# Altium footprint library SM_RVC0020A.PcbLib: 1 footprints
Each footprint in its own frame and in the unit in brackets; x right, y up, seen from the top. Pads: shape width x height; smd on the part's side, far side on the other; paste and mask are expansions set on the pad; w line width, h text height; cw(c..) or ccw(c..) is an arc to the next point about the centre after c.
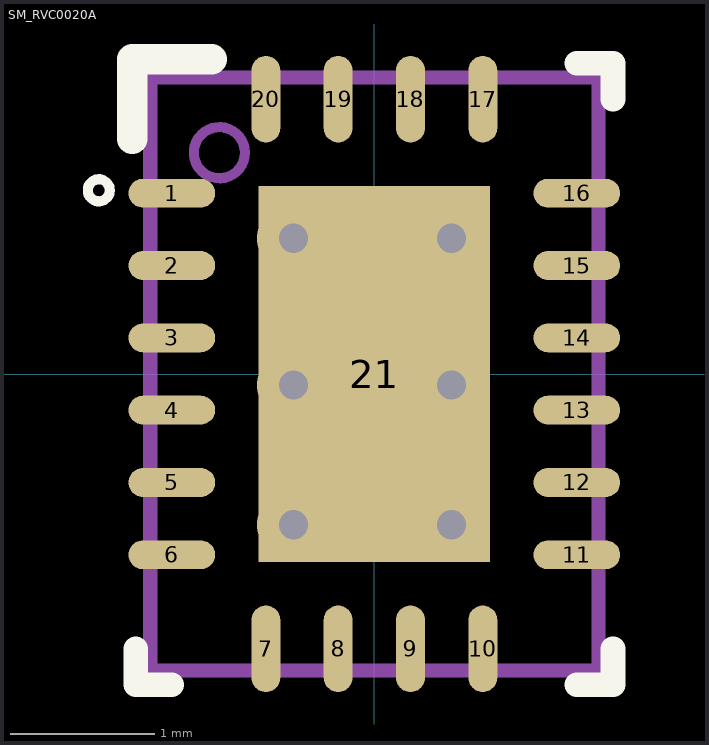
[diagram p0: the footprint, top view; thin cyan lines are the x and y axes]

## SM_RVC0020A [mm]
pads (21):
  oval 0.6x0.2 smd mask+0.07: 1(-1.4,1.25) 2(-1.4,0.75) 3(-1.4,0.25) 4(-1.4,-0.25) 5(-1.4,-0.75) 6(-1.4,-1.25) 11(1.4,-1.25) 12(1.4,-0.75) 13(1.4,-0.25) 14(1.4,0.25) 15(1.4,0.75) 16(1.4,1.25)
  oval 0.2x0.6 smd mask+0.07: 7(-0.75,-1.9) 8(-0.25,-1.9) 9(0.25,-1.9) 10(0.75,-1.9) 17(0.75,1.9) 18(0.25,1.9) 19(-0.25,1.9) 20(-0.75,1.9)
  rect 1.6x2.6 smd paste-1 mask+0.051: 21(0,0)
via -0.559,-1.041 diameter 0.508 hole 0.203
via -0.559,0.94 diameter 0.508 hole 0.203
via 0.533,0.94 diameter 0.508 hole 0.203
via 0.533,-1.041 diameter 0.508 hole 0.203
via 0.533,-0.076 diameter 0.508 hole 0.203
via -0.559,-0.076 diameter 0.508 hole 0.203
Top Overlay:
  circle w0.07: c-1.905,1.27 r0.076
  lines w0.17: -1.65,-1.9 -1.65,-2.15 -1.4,-2.15 ; 1.4,-2.15 1.65,-2.15 1.65,-1.9 ; 1.4,2.15 1.65,2.15 1.65,1.9
  lines w0.21: -1.675,1.625 -1.675,2.175 -1.125,2.175
Top Paste:
  region: -0.735,-0.1 -0.735,-1.25 0.735,-1.25 0.735,-0.1
  region: -0.735,1.25 -0.735,0.1 0.735,0.1 0.735,1.25
Mechanical 13:
  circle w0.07: c-1.072,1.53 r0.177
  lines w0.1: -1.55,-2.05 1.55,-2.05 1.55,2.05 -1.55,2.05 -1.55,-2.05
3D body "RVC0020A.step": height 0.8, standoff 0, extent -1.499,-2 1.501,2